# EAGLE library part C11 (library con-ninigi-3.96)
NINIGI
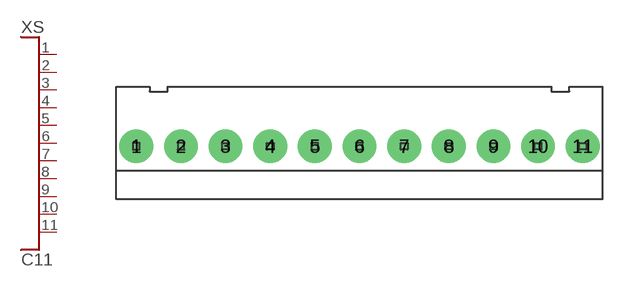
[diagram p5: symbol with the pads of NINIGI11C; footprint NINIGI11C]

Designator prefix XS

## C11  [NINIGI11C]
1  P$1
2  P$2
3  P$3
4  P$4
5  P$5
6  P$6
7  P$7
8  P$8
9  P$9
10  P$10
11  P$11

## Footprint NINIGI11C (pad centres in mm)
drill 1.6 pad 3: 1 -19.8,0; 2 -15.84,0; 3 -11.88,0; 4 -7.92,0; 5 -3.96,0; 6 0,0; 7 3.96,0; 8 7.92,0; 9 11.88,0; 10 15.84,0; 11 19.8,0